# Altium schematic symbol library Project2.SchLib: 12 symbols
Pins are listed as number, name and electrical type; pins without a type are passive.

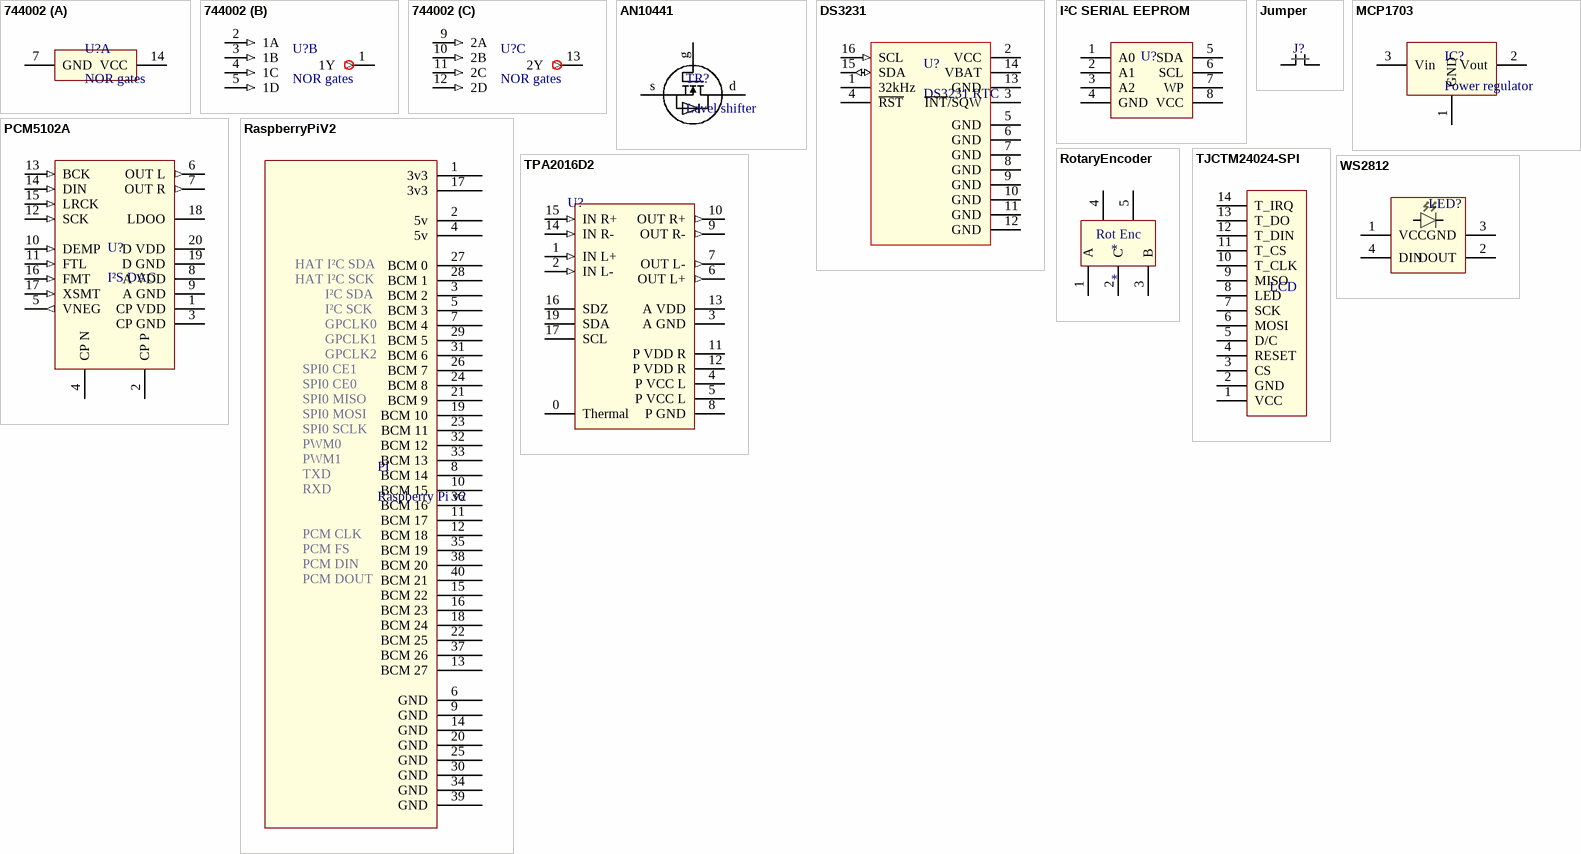
[diagram p0: symbols 744002 to WS2812]

## 744002
designator U?, comment NOR gates
Dual 4-input NOR gate
footprint SOIC-14
part A pins: 7 GND (power), 14 VCC (power)
part B pins: 1 1Y (out), 2 1A (in), 3 1B (in), 4 1C (in), 5 1D (in)
part C pins: 9 2A (in), 10 2B (in), 11 2C (in), 12 2D (in), 13 2Y (out)

## AN10441
designator TR?, comment Level shifter
footprint SOT-23A; pin to pad d>3 g>1 s>2
pins: d (power), g (power), s (power)

## DS3231
designator U?, comment DS3231 RTC
RTC
footprint DS3231 SO-16
pins: 1 32kHz, 2 VCC (power), 3 ~{INT}/SQW, 4 ~{RST}, 5 GND, 6 GND, 7 GND, 8 GND, 9 GND, 10 GND, 11 GND, 12 GND, 13 GND (power), 14 VBAT (power), 15 SDA (io), 16 SCL (in)

## I²C SERIAL EEPROM
designator U?
footprint SOIC-8
pins: 1 A0, 2 A1, 3 A2, 4 GND (power), 5 SDA, 6 SCL, 7 WP, 8 VCC

## Jumper
designator J?
Jumper
footprint HDR1X2 (2 Pin Header)
pins: 1, 2

## MCP1703
designator IC?, comment Power regulator
footprint SOT-23A
pins: 1 GND (power), 2 Vout (power), 3 Vin (power)

## PCM5102A
designator U?, comment I²S DAC
footprint TSSOP-20
pins: 1 CP VDD (power), 2 CP P, 3 CP GND (power), 4 CP N, 5 VNEG (out), 6 OUT L (out), 7 OUT R (out), 8 A VDD (power), 9 A GND (power), 10 DEMP (in), 11 FTL (in), 12 SCK (in), 13 BCK (in), 14 DIN (in), 15 LRCK (in), 16 FMT (in), 17 XSMT (in), 18 LDOO, 19 D GND (power), 20 D VDD (power)

## RaspberryPiV2
designator PI, comment Raspberry Pi v2
Raspberry Pi v2 Header
footprint HDR2x10 (20 pin Header)
pins: 1 3v3 (power), 2 5v (power), 3 BCM 2, 4 5v (power), 5 BCM 3, 6 GND (power), 7 BCM 4, 8 BCM 14, 9 GND (power), 10 BCM 15, 11 BCM 17, 12 BCM 18, 13 BCM 27, 14 GND (power), 15 BCM 22, 16 BCM 23, 17 3v3 (power), 18 BCM 24, 19 BCM 10, 20 GND (power), 21 BCM 9, 22 BCM 25, 23 BCM 11, 24 BCM 8, 25 GND (power), 26 BCM 7, 27 BCM 0, 28 BCM 1, 29 BCM 5, 30 GND (power), 31 BCM 6, 32 BCM 12, 33 BCM 13, 34 GND (power), 35 BCM 19, 36 BCM 16, 37 BCM 26, 38 BCM 20, 39 GND (power), 40 BCM 21
text: HAT I²C SDA; HAT I²C SCK; I²C SDA; I²C SCK; GPCLK0; GPCLK1; GPCLK2; SPI0 CE1; SPI0 CE0; SPI0 MISO; SPI0 MOSI; SPI0 SCLK; PWM0; PWM1; TXD; RXD; PCM CLK; PCM FS; PCM DIN; PCM DOUT

## RotaryEncoder
designator *
footprint EC11E-WP (With push button)
pins: 1 A, 2 C, 3 B, 4 E, 5 F
text: Rot Enc

## TJCTM24024-SPI
designator LCD  (value not drawn)
LCD module
pins: 1 VCC, 2 GND, 3 CS, 4 RESET, 5 D/C, 6 MOSI, 7 SCK, 8 LED, 9 MISO, 10 T_CLK, 11 T_CS, 12 T_DIN, 13 T_DO, 14 T_IRQ

## TPA2016D2
designator U?  (value not drawn)
I²C Audio Amplifier
footprint QFN20-tpa2016d2 (QFN, 20-Leads, Body 4,77x4,77mm, Pitch 0,50mm, Thermal Pad 2,70x2,70mm, IPC Low Density)
pins: 0 Thermal, 1 IN L+ (in), 2 IN L- (in), 3 A GND (power), 4 P VCC L (power), 5 P VCC L (power), 6 OUT L+ (out), 7 OUT L- (out), 8 P GND (power), 9 OUT R- (out), 10 OUT R+ (out), 11 P VDD R (power), 12 P VDD R (power), 13 A VDD (power), 14 IN R- (in), 15 IN R+ (in), 16 SDZ, 17 SCL, 19 SDA

## WS2812
designator LED?  (value not drawn)
Serial RGB Led
footprint WS2812B
pins: 1 VCC (power), 2 DOUT, 3 GND (power), 4 DIN